# Altium schematic symbol library C.SchLib: 39 symbols
Pins are listed as number, name and electrical type; pins without a type are passive.

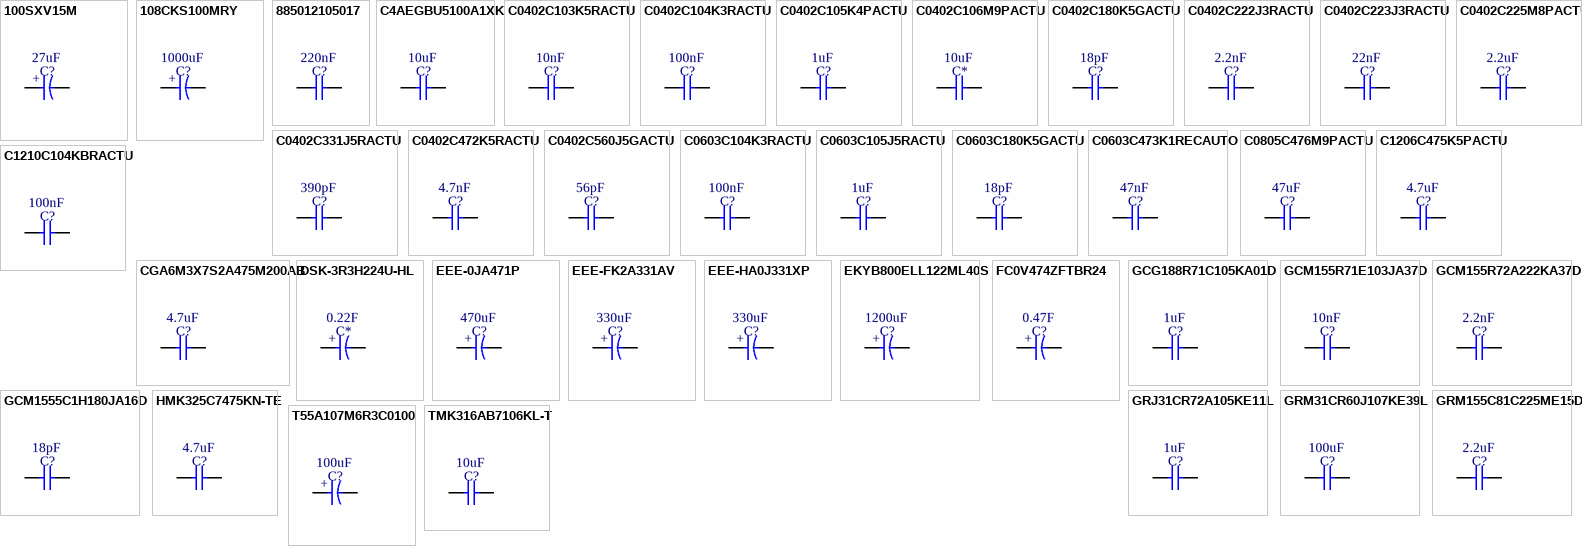
[diagram p0: symbols 100SXV15M to TMK316AB7106KL-T]

## 100SXV15M
designator C?  value 27uF  (hidden comment: *)
Aluminum Organic Polymer Capacitors OS-CON; WVDC: 6.3; ESR: 40mOhm
footprint Panasonic F (Aluminum Electrolytic Capacitors - SMD - 10mm F Style)
pins: 1, 2
text: +

## 108CKS100MRY
designator C?  value 1000uF  (hidden comment: *)
CAP 7.5mm Radial 1000uF 100V; WVDC: 100
footprint CAP 7.5mm Bent (Electrolytic Capacitor, 7.5mm Lead Spacing, 0.6mm Holes)
footprint CAP 7.5mm Bent Reverse (Electrolytic Capacitor, 7.5mm Lead Spacing, 0.6mm Holes)
pins: 1, 2
text: +

## 885012105017
designator C?  value 220nF  (hidden comment: *)
CAP 0402 220nF 16V; WVDC: 16
footprint CAP 0402 (Chip Capacitor; Body 1.0 x 0.5 mm (LxW typ))
pins: 1, 2

## C4AEGBU5100A1XK
designator C?  value 10uF  (hidden comment: *)
CAP THT 10uF 450V; WVDC: 450
footprint C4AEGBU5100A1XK (Electrolytic Capacitor, 7.5mm Lead Spacing, 0.6mm Holes)
pins: 1, 2

## C0402C103K5RACTU
designator C?  value 10nF  (hidden comment: *)
CAP 0402 10nF 50V; WVDC: 50
footprint CC3216-1206 (Chip Capacitor; Body 3.2 x 1.6 mm (LxW typ))
footprint CAP 0402 (Chip Capacitor; Body 1.0 x 0.5 mm (LxW typ))
pins: 1, 2

## C0402C104K3RACTU
designator C?  value 100nF  (hidden comment: *)
CAP 0402 100nF 10V; WVDC: 25
footprint CAP 0402 (Chip Capacitor; Body 1.0 x 0.5 mm (LxW typ))
pins: 1, 2

## C0402C105K4PACTU
designator C?  value 1uF  (hidden comment: *)
CAP 0402 1uF 16V; WVDC: 16
footprint CAP 0402 (Chip Capacitor; Body 1.0 x 0.5 mm (LxW typ))
pins: 1, 2

## C0402C106M9PACTU
designator C*  value 10uF  (hidden comment: *)
CAP 0402 10uF 6.3V; WVDC: 6.3
footprint CAP 0402 (Chip Capacitor; Body 1.0 x 0.5 mm (LxW typ))
pins: 1, 2

## C0402C180K5GACTU
designator C?  value 18pF  (hidden comment: *)
CAP 0402 18pF 50V; WVDC: 50
footprint CAP 0402 (Chip Capacitor; Body 1.0 x 0.5 mm (LxW typ))
pins: 1, 2

## C0402C222J3RACTU
designator C?  value 2.2nF  (hidden comment: *)
CAP 0402 2.2nF 25V (X7R DIELECTRIC); WVDC: 25
footprint CAP 0402 (Chip Capacitor; Body 1.0 x 0.5 mm (LxW typ))
pins: 1, 2

## C0402C223J3RACTU
designator C?  value 22nF  (hidden comment: *)
CAP 0402 22nF 25V (X7R DIELECTRIC); WVDC: 25
footprint CAP 0402 (Chip Capacitor; Body 1.0 x 0.5 mm (LxW typ))
pins: 1, 2

## C0402C225M8PACTU
designator C?  value 2.2uF  (hidden comment: *)
CAP 0402 2.2uF 10V; WVDC: 10
footprint CAP 0402 (Chip Capacitor; Body 1.0 x 0.5 mm (LxW typ))
pins: 1, 2

## C0402C331J5RACTU
designator C?  value 390pF  (hidden comment: *)
CAP 0402 390pF 50V; WVDC: 50
footprint CAP 0402 (Chip Capacitor; Body 1.0 x 0.5 mm (LxW typ))
pins: 1, 2

## C0402C472K5RACTU
designator C?  value 4.7nF  (hidden comment: *)
CAP 0402 4.7nF 50V; WVDC: 50
footprint CAP 0402 (Chip Capacitor; Body 1.0 x 0.5 mm (LxW typ))
pins: 1, 2

## C0402C560J5GACTU
designator C?  value 56pF  (hidden comment: *)
CAP 0402 56pF 50V; WVDC: 50
footprint CAP 0402 (Chip Capacitor; Body 1.0 x 0.5 mm (LxW typ))
pins: 1, 2

## C0603C104K3RACTU
designator C?  value 100nF  (hidden comment: *)
CAP 0402 100nF 10V; WVDC: 25
footprint CAP 0603 (Chip Capacitor; Body 1.6 x 0.8 mm (LxW typ))
pins: 1, 2

## C0603C105J5RACTU
designator C?  value 1uF  (hidden comment: *)
CAP 0603 1uF 50V; WVDC: 50
footprint CAP 0603 (Chip Capacitor; Body 1.6 x 0.8 mm (LxW typ))
pins: 1, 2

## C0603C180K5GACTU
designator C?  value 18pF  (hidden comment: *)
CAP 0603 18pF 50V; WVDC: 50
footprint CAP 0603 (Chip Capacitor; Body 1.6 x 0.8 mm (LxW typ))
pins: 1, 2

## C0603C473K1RECAUTO
designator C?  value 47nF  (hidden comment: *)
CAP 0603 47nF 100V (X7R DIELECTRIC); WVDC: 100
footprint CAP 0603 (Chip Capacitor; Body 1.6 x 0.8 mm (LxW typ))
pins: 1, 2

## C0805C476M9PACTU
designator C?  value 47uF  (hidden comment: *)
CAP 0805 47uF 6.3V; WVDC: 6.3
footprint CAP 0805 (Chip Capacitor; Body 2.0 x 1.2 mm (LxW typ))
pins: 1, 2

## C1206C475K5PACTU
designator C?  value 4.7uF  (hidden comment: *)
CAP 1206 4.7uF 50V; WVDC: 50
footprint CAP 1206 (Chip Capacitor; Body 3.2 x 1.6 mm (LxW typ))
pins: 1, 2

## C1210C104KBRACTU
designator C?  value 100nF  (hidden comment: *)
CAP 1210 100nF 600V; WVDC: 600
footprint CAP 1210 (Chip Capacitor; Body 3.2 x 2.5 mm (LxW typ))
pins: 1, 2

## CGA6M3X7S2A475M200AB
designator C?  value 4.7uF  (hidden comment: *)
CAP 1206 4.7uF 100V; WVDC: 100
footprint CAP 1210 (Chip Capacitor; Body 3.2 x 2.5 mm (LxW typ))
pins: 1, 2

## DSK-3R3H224U-HL
designator C*  value 0.22F  (hidden comment: *)
Supercapacitors / Ultracapacitors 3.3V .22F 6.8x2.1; WVDC: 3.3
footprint DSK-621 (ELNA Supercapacitor (EDLC) 3.3V Coin, Wide Terminals)
footprint CAP 7.5mm Bent Reverse (Electrolytic Capacitor, 7.5mm Lead Spacing, 0.6mm Holes)
pins: 1, 2
text: +

## EEE-0JA471P
designator C?  value 470uF  (hidden comment: *)
Aluminum Electrolytic Capacitors; WVDC: 6.3
footprint Panasonic F (Aluminum Electrolytic Capacitors - SMD - 10mm F Style)
pins: 1, 2
text: +

## EEE-FK2A331AV
designator C?  value 330uF  (hidden comment: *)
CAP Radial 330uF 100V; WVDC: 100
footprint Panasonic K16-V (Aluminum Electrolytic Capacitors - SMD - K16-V)
pins: 1, 2
text: +

## EEE-HA0J331XP
designator C?  value 330uF  (hidden comment: *)
Aluminum Electrolytic Capacitors; WVDC: 6.3
footprint Panasonic D8 (Aluminum Electrolytic Capacitors - SMD)
pins: 1, 2
text: +

## EKYB800ELL122ML40S
designator C?  value 1200uF  (hidden comment: *)
CAP 7.5mm Radial 1200uF 80V; WVDC: 80
footprint CAP 7.5mm Bent (Electrolytic Capacitor, 7.5mm Lead Spacing, 0.6mm Holes)
footprint CAP 7.5mm Bent Reverse (Electrolytic Capacitor, 7.5mm Lead Spacing, 0.6mm Holes)
pins: 1, 2
text: +

## FC0V474ZFTBR24
designator C?  value 0.47F  (hidden comment: *)
SMD Can Supercapacitors Capacitor; WVDC: 3.5; ESR: 40mOhm
footprint KEMET SMD SUPERCAP 10mm (Supercaps - SMD)
pins: 1, 2
text: +

## GCG188R71C105KA01D
designator C?  value 1uF  (hidden comment: *)
CAP 0603 1uF 16V (X7R DIELECTRIC); WVDC: 16
footprint CAP 0603 (Chip Capacitor; Body 1.6 x 0.8 mm (LxW typ))
pins: 1, 2

## GCM155R71E103JA37D
designator C?  value 10nF  (hidden comment: *)
CAP 0402 10nF 25V; WVDC: 25
footprint CC3216-1206 (Chip Capacitor; Body 3.2 x 1.6 mm (LxW typ))
footprint CAP 0402 (Chip Capacitor; Body 1.0 x 0.5 mm (LxW typ))
pins: 1, 2

## GCM155R72A222KA37D
designator C?  value 2.2nF  (hidden comment: *)
CAP 0402 2.2nF 100V (X7R DIELECTRIC); WVDC: 100
footprint CAP 0402 (Chip Capacitor; Body 1.0 x 0.5 mm (LxW typ))
pins: 1, 2

## GCM1555C1H180JA16D
designator C?  value 18pF  (hidden comment: *)
CAP 0402 18pF 50V (NP0 Dielectric); WVDC: 50
footprint CAP 0402 (Chip Capacitor; Body 1.0 x 0.5 mm (LxW typ))
pins: 1, 2

## GRJ31CR72A105KE11L
designator C?  value 1uF  (hidden comment: *)
CAP 1206 1uF 100V; WVDC: 100
footprint CAP 1206 (Chip Capacitor; Body 3.2 x 1.6 mm (LxW typ))
pins: 1, 2

## GRM31CR60J107KE39L
designator C?  value 100uF  (hidden comment: *)
CAP 1206 100uF 6.3V; WVDC: 6.3
footprint CAP 1206 (Chip Capacitor; Body 3.2 x 1.6 mm (LxW typ))
pins: 1, 2

## GRM155C81C225ME15D
designator C?  value 2.2uF  (hidden comment: *)
CAP 0402 2.2uF 16V; WVDC: 16
footprint CAP 0402 (Chip Capacitor; Body 1.0 x 0.5 mm (LxW typ))
pins: 1, 2

## HMK325C7475KN-TE
designator C?  value 4.7uF  (hidden comment: *)
CAP 1210 4.7uF 100V; WVDC: 100
footprint CAP 1210 (Chip Capacitor; Body 3.2 x 2.5 mm (LxW typ))
pins: 1, 2

## T55A107M6R3C0100
designator C?  value 100uF  (hidden comment: *)
CAP 1206 100uF 6.3V TANTALUM; WVDC: 6.3
footprint CAP 1206 TANTALUM (Chip Capacitor; Body 3.2 x 1.6 mm (LxW typ))
pins: 1 2, 2
text: +

## TMK316AB7106KL-T
designator C?  value 10uF  (hidden comment: *)
CAP 1206 10uF 25V; WVDC: 25
footprint CAP 1206 (Chip Capacitor; Body 3.2 x 1.6 mm (LxW typ))
pins: 1, 2